# Altium footprint library MainPcblib.PcbLib: 316 footprints (part 8 of 20)
Each footprint in its own frame and in the unit in brackets; x right, y up, seen from the top. Pads: shape width x height; smd on the part's side, far side on the other; paste and mask are expansions set on the pad; w line width, h text height; cw(c..) or ccw(c..) is an arc to the next point about the centre after c.
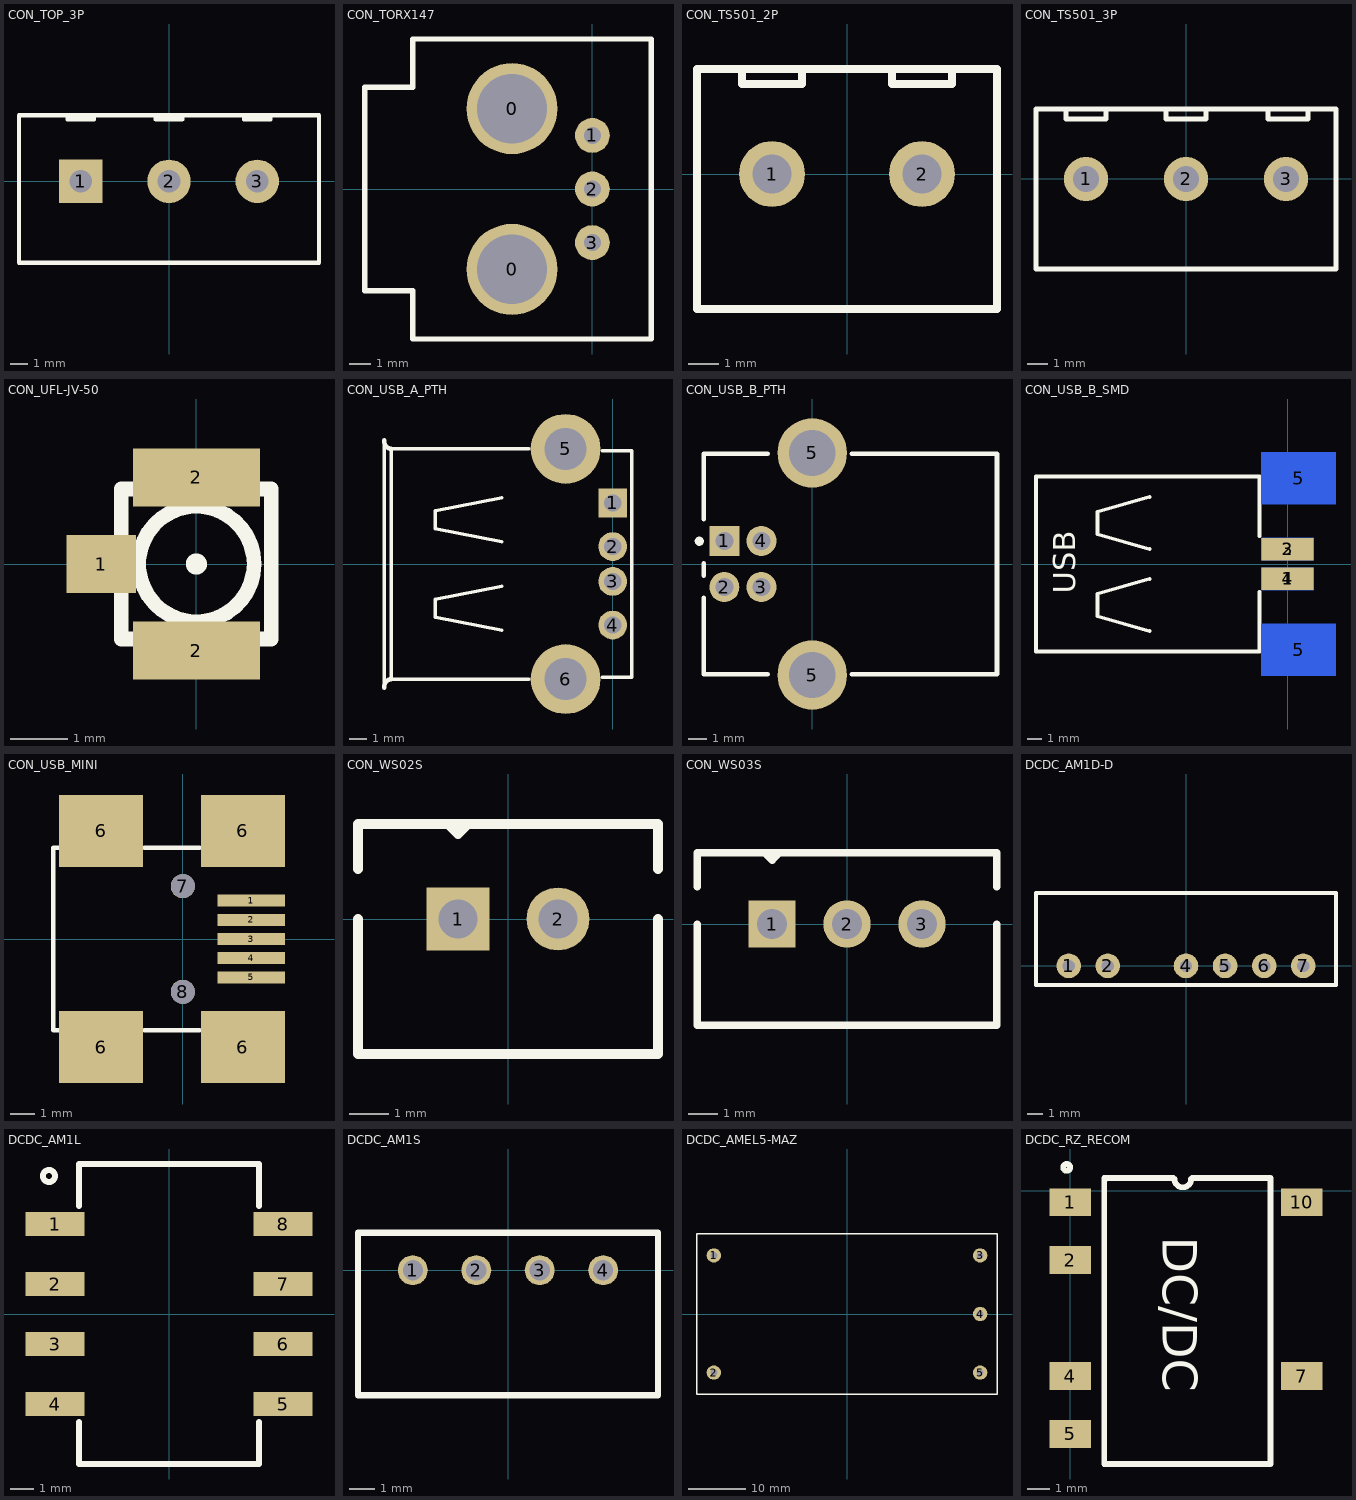
[diagram p7: the footprints below, top view; thin cyan lines are the x and y axes]

## CON_TOP_3P [mm] "Weidumuller - SL 5.08/3/180B"
height 12
pads (3):
  rect 2.5x2.5 hole 1.3: 1(-5.08,0)
  round 2.5 hole 1.3: 2(0,0) 3(5.08,0)
Top Overlay:
  lines w0.254: -5.842,3.81 -5.842,3.556 -4.318,3.556 -4.318,3.81 ; -0.762,3.81 -0.762,3.556 0.762,3.556 0.762,3.81 ; 4.318,3.81 4.318,3.556 5.842,3.556 5.842,3.81 ; -8.636,-4.699 8.636,-4.699 8.636,3.81 -8.636,3.81 -8.636,-4.699

## CON_TORX147 [mil] "TOSLINK receiver"
pads (5):
  round 170 hole 129.92: 0(-150,-150) 0(-150,150)
  round 65 hole 31.5: 1(0,100) 2(0,0) 3(0,-100)
Top Overlay:
  lines w10: -425,-190 -425,190 -335,190 -335,280 110,280 110,-280 100,-280 -335,-280 -335,-190 -425,-190

## CON_TS501_2P [mm]
pads (2):
  round 2.2 hole 1.3: 1(-2.5,0) 2(2.5,0)
Top Overlay:
  lines w0.254: -3.5,3.5 -3.5,3 -1.5,3 -1.5,3.5 ; 1.5,3.5 1.5,3 3.5,3 3.5,3.5 ; -5,-4.5 5,-4.5 5,3.5 -5,3.5 -5,-4.5

## CON_TS501_3P [mm]
pads (3):
  round 2.2 hole 1.3: 1(-5,0) 2(0,0) 3(5,0)
Top Overlay:
  lines w0.254: -6,3.5 -6,3 -4,3 -4,3.5 ; -1,3.5 -1,3 1,3 1,3.5 ; 4.1,3.5 4.1,3 6.1,3 6.1,3.5 ; -7.5,-4.5 -7.5,3.5 7.5,3.5 7.5,-4.5 -7.5,-4.5

## CON_UFL-JV-50 [mm] "UF-L RF connector"
pads (3):
  rect 1.2x1 smd: 1(-1.65,0)
  rect 2.2x1 smd: 2(0,-1.5) 2(0,1.5)
Top Overlay:
  circle w0.254: c0,0 r1
  lines w0.254: 0.056,0 cw(c0,0) 0.056,0.003 ; -1.3,-1.3 -1.3,1.3 1.3,1.3 1.3,-1.3 -1.3,-1.3

## CON_USB_A_PTH [mm] "USB A single socket"
height 5.2
pads (6):
  rect 1.651x1.651 hole 0.991: 1(0,3.5)
  round 1.651 hole 0.991: 2(0,1) 3(0,-1) 4(0,-3.5)
  round 4 hole 2.4: 5(-2.7,6.6) 6(-2.7,-6.6)
Top Overlay:
  lines w0.2: -13.1,-7.1 -13.1,7.1 ; -6.35,-3.81 -10.16,-3.048 -10.16,-2.032 -6.35,-1.27 ; -6.35,1.27 -10.16,2.032 -10.16,3.048 -6.35,3.81 ; -4.8,-6.6 -12.7,-6.6 -12.7,6.6 -4.8,6.6 ; -0.6,-6.5 1.1,-6.5 1.1,-5.3 1.1,6.2 1.1,6.5 -0.6,6.5
  lines w0.254: -13.1,-7.1 cw(c-12.65,-7.05) -12.7,-6.6 ; -13.1,7.1 ccw(c-12.65,7.05) -12.7,6.6

## CON_USB_B_PTH [mil] "USB type B PTH connector"
pads (6):
  rect 65x65 hole 39: 1(-190,50)
  round 65 hole 39: 2(-190,-50) 3(-110,-50) 4(-110,50)
  round 150 hole 100: 5(0,-240) 5(0,240)
Top Overlay:
  circle w10: c-244.09,49.21 r4.92
  lines w10: -234.65,-72.83 -234.65,-238.19 -96.06,-238.19 ; -234.65,-25.59 -234.65,1.97 ; -234.65,96.46 -234.65,238.19 -96.06,238.19 ; 85.04,-238.19 399.21,-238.19 399.21,238.19 85.04,238.19

## CON_USB_B_SMD [mil] "USB type B SMD connector"
pads (6):
  rect 140x60 smd: 1(0,-40) 2(0,40)
  rect 140x60 smd far side: 3(0,40) 4(0,-40)
  rect 200x140 smd far side: 5(30,-230) 5(30,230)
Top Overlay:
  lines w10: -370,-180 -510,-140 -510,-80 -370,-40 ; -370,40 -510,80 -510,140 -370,180 ; -75,-75 -75,-235 -675,-235 -675,235 -75,235 -75,75
  text "USB" at -570,-80 h60

## CON_USB_MINI [mm]
pads (11):
  rect 2.8x0.5 smd: 1(2.85,1.6) 2(2.85,0.8) 3(2.85,0) 4(2.85,-0.8) 5(2.85,-1.6)
  rect 3.5x3 smd: 6(-3.4,-4.5) 6(-3.4,4.5) 6(2.5,-4.5) 6(2.5,4.5)
  round 1 hole 1: 7(0,2.2) 8(0,-2.2)
Top Overlay:
  lines w0.2: -5.2,-3.8 -5.4,-3.8 -5.4,3.8 -5.2,3.8 ; -1.6,-3.8 0.7,-3.8 ; -1.6,3.8 0.7,3.8

## CON_WS02S [mm] "2.50mm connector, PCB mount, mate with HS2"
pads (2):
  rect 1.6x1.6 hole 1: 1(-1.27,0)
  round 1.6 hole 1: 2(1.27,0)
Top Overlay:
  lines w0.254: -3.81,0 -3.81,-3.429 3.81,-3.429 3.81,0 ; -3.81,1.27 -3.81,2.413 3.81,2.413 3.81,1.27 ; -1.524,2.413 -1.27,2.159 -1.016,2.413

## CON_WS03S [mm] "2.50mm connector, PCB mount, mate with HS2"
pads (3):
  rect 1.6x1.6 hole 1: 1(-2.54,0)
  round 1.6 hole 1: 2(0,0) 3(2.54,0)
Top Overlay:
  lines w0.254: -5.08,0 -5.08,-3.429 5.08,-3.429 5.08,0 ; -5.08,1.27 -5.08,2.413 5.08,2.413 5.08,1.27 ; -2.794,2.413 -2.54,2.159 -2.286,2.413

## DCDC_AM1D-D [mm] "Aimtec AM1x-D and AM2x-D"
height 10
pads (6):
  round 1.6 hole 0.8: 1(-7.62,0) 2(-5.08,0) 4(0,0) 5(2.54,0) 6(5.08,0) 7(7.62,0)
Top Overlay:
  lines w0.254: -9.75,-1.25 -9.75,4.75 9.75,4.75 9.75,-1.25 0,-1.25 -9.75,-1.25

## DCDC_AM1L [mm]
height 6.25
pads (8):
  rect 2.5x1 smd: 1(-4.826,3.81) 2(-4.826,1.27) 3(-4.826,-1.27) 4(-4.826,-3.81) 5(4.826,-3.81) 6(4.826,-1.27) 7(4.826,1.27) 8(4.826,3.81)
Top Overlay:
  circle w0.254: c-5.08,5.842 r0.254
  lines w0.254: -3.81,-4.572 -3.81,-6.35 3.81,-6.35 3.81,-4.572 ; -3.81,4.572 -3.81,6.35 3.81,6.35 3.81,4.572

## DCDC_AM1S [mm] "For AM1S DC/DC"
height 9.7
pads (4):
  round 1.2 hole 0.8: 1(-3.81,0) 2(-1.27,0) 3(1.27,0) 4(3.81,0)
Top Overlay:
  lines w0.254: -6,-5 -6,1.5 6,1.5 6,-5 -6,-5

## DCDC_AMEL5-MAZ [mm] "AC/DC module"
height 18
pads (5):
  round 2.5 hole 1.2: 1(-23.114,10.16) 2(-23.114,-10.16) 3(23.114,10.16) 4(23.114,0) 5(23.114,-10.16)
Top Overlay:
  lines w0.254: -26.035,-13.97 26.035,-13.97 26.035,13.97 -26.035,13.97 -26.035,-13.97

## DCDC_RZ_RECOM [mil]
pads (6):
  rect 72x48 smd: 1(0,-20) 2(0,-120) 4(0,-320) 5(0,-420) 7(400,-320) 10(400,-20)
Top Overlay:
  circle w9.84: c-5.91,40 r5.91
  lines w9.84: 59.05,21.85 59.05,-471.85 345.67,-471.85 345.67,21.85 ; 180,20 ccw(c194.44,20) 208.87,20
  lines w10: 60.91,20 59.05,21.85 178.15,21.85 ; 208.87,20 210.72,21.85 345.67,21.85
  text "DC/DC" at 160,-80 h60